# Altium integrated library BC856.IntLib: 1 symbol
Pins are listed as number, name and electrical type; pins without a type are passive.

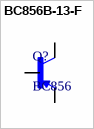
[diagram p0: symbol BC856B-13-F]

## BC856B-13-F
designator Q?, comment BC856
Bipolar _BJT_ Transistor PNP 65V 100mA SOT-23-3; MF: Nexperia USA; Availability: Unavailable; Package: SOT-23-3 Rectron; Price: None; SnapEDA_Link: https://www.snapeda.com/parts/BC817/Nexperia%20USA%20Inc./view-part/4219270/?ref=snap; MP: BC856; Value: BC856
pins: 1 B, 2 E, 3 C